# EAGLE library part BQ27510-G3 (library texas)
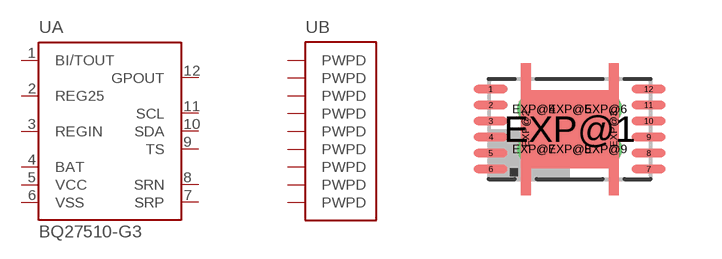
[diagram p119: symbol with the pads of DRZ; footprint DRZ]

Designator prefix -; gates A=BQ27510-G3 B=PWPD9

## BQ27510-G3  [DRZ]
1  A:BI/TOUT
2  A:REG25  in
3  A:REGIN  in
4  A:BAT  in
5  A:VCC  pwr
6  A:VSS  pwr
7  A:SRP  out
8  A:SRN  in
9  A:TS  out
10  A:SDA
11  A:SCL  in
12  A:GPOUT  out
EXP@1  B:PWPD  pwr
EXP@2  B:PWPD  pwr
EXP@3  B:PWPD  pwr
EXP@4  B:PWPD  pwr
EXP@5  B:PWPD  pwr
EXP@6  B:PWPD  pwr
EXP@7  B:PWPD  pwr
EXP@8  B:PWPD  pwr
EXP@9  B:PWPD  pwr

## Footprint DRZ (pad centres in mm)
DRZ (S-PDSO-N12) PLASTIC SMALL OUTLINE Source: bq27500-v100.pdf
smd 0.85 x 0.2: 1 -1.975,1; 2 -1.975,0.6; 3 -1.975,0.2; 4 -1.975,-0.2; 5 -1.975,-0.6; 6 -1.975,-1; 7 1.975,-1; 8 1.975,-0.6; 9 1.975,-0.2; 10 1.975,0.2; 11 1.975,0.6; 12 1.975,1
smd 2.45 x 1.95: EXP@1 0,0
smd 0.25 x 3.3: EXP@2 -1.1,0; EXP@3 1.1,0
drill 0.3 pad 0.406: EXP@4 -0.9,0.5; EXP@5 0,0.5; EXP@6 0.9,0.5; EXP@7 -0.9,-0.5; EXP@8 0,-0.5; EXP@9 0.9,-0.5